# EAGLE library part FRAM_I2C (library Adafruit_Modules)
Adafruit FRAM I2C Breakout 256kbit (32kbyte)
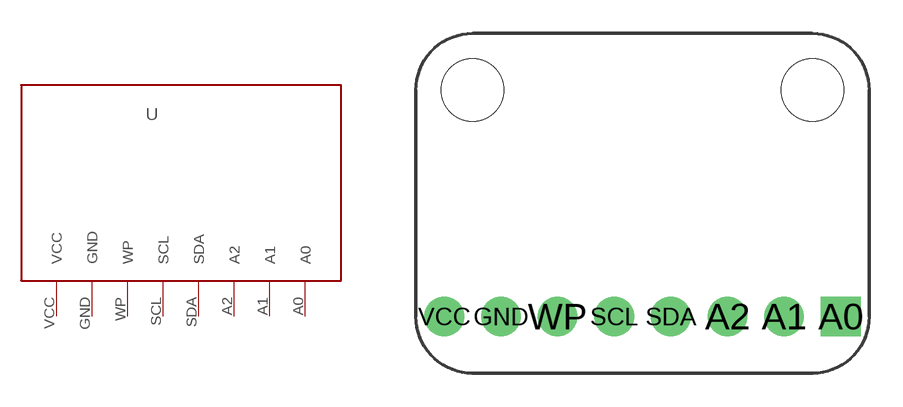
[diagram p4: symbol with the pads of FRAM_I2C; footprint FRAM_I2C]

Designator prefix -

## FRAM_I2C (ADAFRUIT: 1895)  [FRAM_I2C]
A0  A0
A1  A1
A2  A2
GND  GND  pwr
SCL  SCL
SDA  SDA
VCC  VCC  pwr
WP  WP  pas

## Footprint FRAM_I2C (pad centres in mm)
Adafruit I2C FRAM 256kbit (32k)
drill 1.1 pad 1.778 square: A0 8.89,0
drill 1.1 pad 1.778: A1 6.35,0; A2 3.81,0; GND -6.35,0; SCL -1.27,0; SDA 1.27,0; VCC -8.89,0; WP -3.81,0
hole 2.8 at -7.62,10.16
hole 2.8 at 7.62,10.16